# Altium schematic symbol library SMDLibrary.SchLib: 158 symbols
Pins are listed as number, name and electrical type; pins without a type are passive.

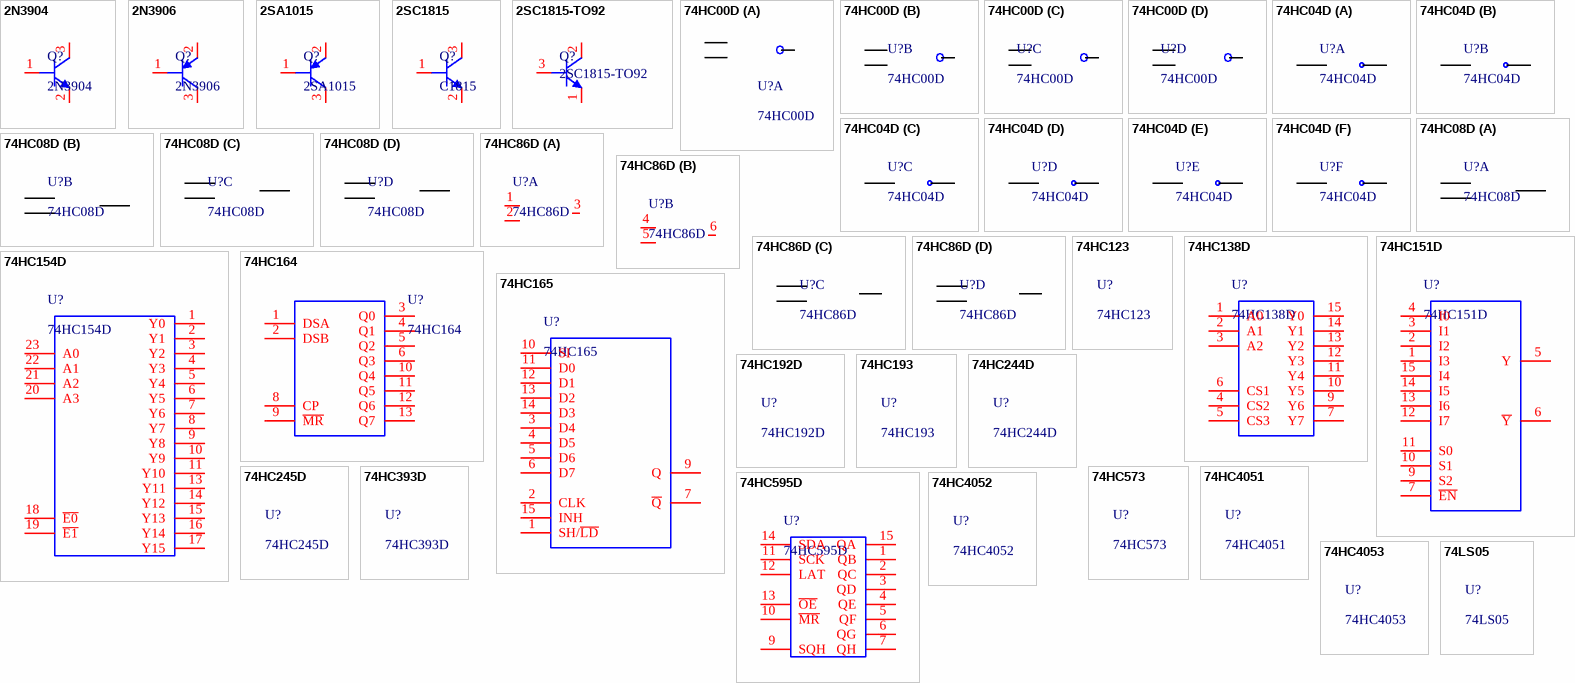
[diagram p0: symbols 2N3904 to 74LS05]

## 2N3904
designator Q?
footprint SOT23-3
footprint SOT223-3
pins: 1 B, 2 E, 3 C

## 2N3906
designator Q?
footprint SOT23-3
pins: 1 B, 2 E, 3 C

## 2SA1015
designator Q?
footprint SOT23-3
pins: 1 B, 2 E, 3 C

## 2SC1815
designator Q?, comment C1815
footprint SOT23-3
pins: 1 B, 2 E, 3 C

## 2SC1815-TO92
designator Q?
footprint TO-92
pins: 1 E, 2 C, 3 B

## 74HC00D
designator U?
footprint SO14
part A pins: 1, 2, 3, 7 hidden to GND, 14 hidden to VCC
part B pins: 4, 5, 6
part C pins: 8, 9, 10
part D pins: 11, 12, 13

## 74HC04D
designator U?
footprint SO14
part A pins: 1, 2, 7 hidden to GND, 14 hidden to VCC
part B pins: 3, 4
part C pins: 5, 6
part D pins: 8, 9
part E pins: 10, 11
part F pins: 12, 13

## 74HC08D
designator U?
footprint SO14
part A pins: 1, 2, 3
part B pins: 4, 5, 6, 7 hidden to GND, 14 hidden to VCC
part C pins: 8, 9, 10
part D pins: 11, 12, 13

## 74HC86D
designator U?
footprint SO14
part A pins: 1, 2, 3, 7 hidden to GND, 14 hidden to VCC
part B pins: 4, 5, 6
part C pins: 8, 9, 10
part D pins: 11, 12, 13

## 74HC123
designator U?
footprint SO16

## 74HC138D
designator U?
footprint SO16
pins: 1 A0, 2 A1, 3 A2, 4 CS2, 5 CS3, 6 CS1, 7 Y7, 8 hidden to GND, 9 Y6, 10 Y5, 11 Y4, 12 Y3, 13 Y2, 14 Y1, 15 Y0, 16 hidden to VCC

## 74HC151D
designator U?
footprint SO16
pins: 1 I3, 2 I2, 3 I1, 4 I0, 5 Y, 6 ~{Y}, 7 ~{EN}, 8 hidden to GND, 9 S2, 10 S1, 11 S0, 12 I7, 13 I6, 14 I5, 15 I4, 16 hidden to VCC

## 74HC154D
designator U?
footprint SO24
pins: 1 Y0, 2 Y1, 3 Y2, 4 Y3, 5 Y4, 6 Y5, 7 Y6, 8 Y7, 9 Y8, 10 Y9, 11 Y10, 12 hidden to GND, 13 Y11, 14 Y12, 15 Y13, 16 Y14, 17 Y15, 18 ~{E0}, 19 ~{E1}, 20 A3, 21 A2, 22 A1, 23 A0, 24 hidden to VCC

## 74HC164
designator U?
footprint SO14
pins: 1 DSA, 2 DSB, 3 Q0, 4 Q1, 5 Q2, 6 Q3, 7 hidden to GND, 8 CP, 9 ~{MR}, 10 Q4, 11 Q5, 12 Q6, 13 Q7, 14 hidden to VCC

## 74HC165
designator U?
footprint SO16
pins: 1 SH/~{LD}, 2 CLK, 3 D4, 4 D5, 5 D6, 6 D7, 7 ~{Q}, 8 hidden to GND, 9 Q, 10 SI, 11 D0, 12 D1, 13 D2, 14 D3, 15 INH, 16 hidden to VCC

## 74HC192D
designator U?
footprint SO16

## 74HC193
designator U?
footprint SO16

## 74HC244D
designator U?
footprint SO20

## 74HC245D
designator U?
footprint SOIC20_1.27_7.5

## 74HC393D
designator U?
footprint SO14

## 74HC573
designator U?
footprint SO20

## 74HC595D
designator U?
footprint SO16
pins: 1 QB, 2 QC, 3 QD, 4 QE, 5 QF, 6 QG, 7 QH, 8 hidden to GND, 9 SQH "OUTPUT", 10 ~{MR} "OUTPUT", 11 SCK "OUTPUT", 12 LAT "OUTPUT", 13 ~{OE} "OUTPUT", 14 SDA "OUTPUT", 15 QA, 16 hidden to VCC

## 74HC4051
designator U?
footprint SO16

## 74HC4052
designator U?
footprint SO16

## 74HC4053
designator U?
footprint SO16

## 74LS05
designator U?
footprint SO14

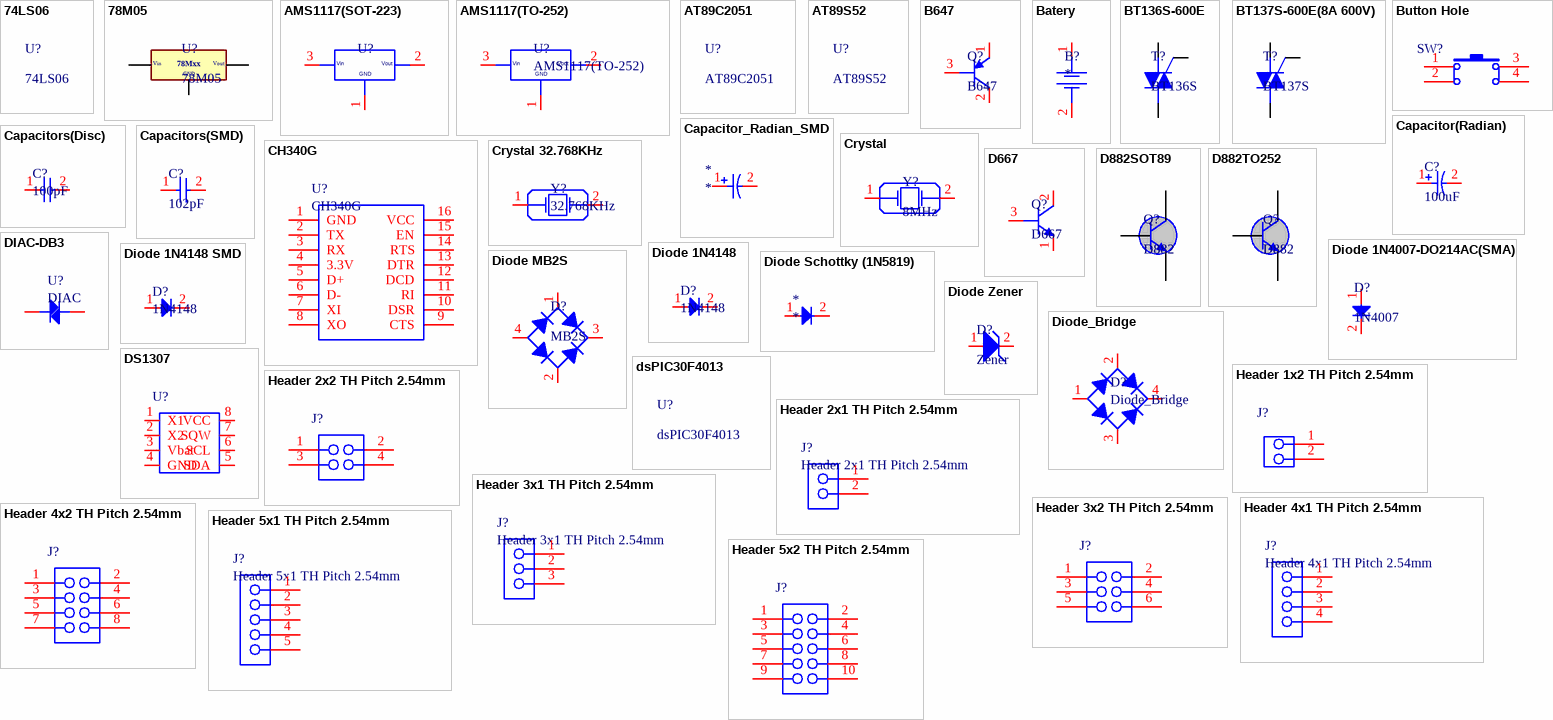
[diagram p1: symbols 74LS06 to Header 5x2 TH Pitch 2.54mm]

## 74LS06
designator U?
footprint SO14

## 78M05
designator U?
pins: 1, 2, 3
text: Vin; Vout; 78Mxx; GND

## AMS1117(SOT-223)
designator U?, comment AMS1117  (value not drawn)
footprint SOT223-3
pins: 1, 2, 3
text: Vin; Vout; GND

## AMS1117(TO-252)
designator U?
footprint TO252-3
pins: 1, 2, 3
text: Vin; Vout; GND

## AT89C2051
designator U?
footprint SOP20

## AT89S52
designator U?
footprint TQFP44_0.8_10

## B647
designator Q?
footprint TO-92
pins: 1 E, 2 C, 3 B

## Batery
designator B?
footprint CR1220
pins: 1, 2

## BT136S-600E
designator T?, comment BT136S
footprint TO252-3
pins: 1 T1, 2 T2, 3 G

## BT137S-600E(8A 600V)
designator T?, comment BT137S
footprint TO252-3
pins: 1 T1, 2 T2, 3 G

## Button Hole
designator SW?  (value not drawn)
footprint BUTTON_HOLE_4.3mm
footprint BUTTON_HOLE_5.0mm
footprint BUTTON_HOLE_7.0mm
footprint BUTTON_HOLE_7.3mm
footprint BUTTON_HOLE_7.5mm
footprint BUTTON_HOLE_8.0mm
footprint BUTTON_HOLE_9.5mm
footprint BUTTON_HOLE_11.0mm
footprint BUTTON_HOLE_12.0mm
footprint BUTTON_HOLE_13.0mm
footprint BUTTON_HOLE_15.0mm
footprint BUTTON_HOLE_17.0mm
footprint BUTTON_HOLE_18.0mm
footprint BUTTON_HOLE_20.0mm
footprint BUTTON_HOLE_22.0mm
footprint BUTTON_HOLE_26.0mm
pins: 1, 2, 3, 4

## Capacitor(Radian)
designator C?, comment 100uF
footprint CAP_6.3_100uF
footprint CAP_RAD_D5x11_POL_BK
footprint CAP_RAD_D6.3x11_POL_BK
footprint CAP_RAD_D8x11.5_POL_BK
footprint CAP_RAD_4mm
footprint CAP_RAD_7mm
footprint CAP_RAD_6mm
pins: 1, 2

## Capacitor_Radian_SMD
designator *
pins: 1, 2

## Capacitors(Disc)
designator C?, comment 100pF
footprint CAP_DISC_PITCH_2.54MM
pins: 1, 2

## Capacitors(SMD)
designator C?, comment 102pF
footprint C0201
footprint C0402
footprint C0603
footprint C0805
footprint C1206
footprint C1808
footprint C1812
pins: 1, 2

## CH340G
designator U?
footprint SOP16_1.27_3.8
pins: 1 GND, 2 TX, 3 RX, 4 3.3V, 5 D+, 6 D-, 7 XI, 8 XO, 9 CTS, 10 DSR, 11 RI, 12 DCD, 13 DTR, 14 RTS, 15 EN, 16 VCC

## Crystal
designator Y?, comment 8MHz
footprint HC-49S
footprint HC-49_THROUGH
footprint SMD5032
pins: 1, 2

## Crystal 32.768KHz
designator Y?, comment 32.768KHz
footprint DT-26
pins: 1, 2

## D667
designator Q?
footprint TO-92
pins: 1 E, 2 C, 3 B

## D882SOT89
designator Q?, comment D882
footprint SOT-89
pins: 1 B, 2 C, 3 E

## D882TO252
designator Q?, comment D882
footprint TO252-3
pins: 1 B, 2 C, 3 E

## DIAC-DB3
designator U?, comment DIAC
footprint SOT23-3
pins: 1 4, 2

## Diode 1N4007-DO214AC(SMA)
designator D?, comment 1N4007
footprint DO-214AC(SMA)
pins: 1, 2

## Diode 1N4148
designator D?, comment 1N4148
footprint DO-35 Horizontal
footprint DO-35 Vertical
footprint SOD-80
pins: 1, 2

## Diode 1N4148 SMD
designator D?, comment 1N4148
footprint DO-213AB
pins: 1, 2

## Diode MB2S
designator D?, comment MB2S
footprint TO-269AA
pins: 1, 2, 3, 4

## Diode Schottky (1N5819)
designator *
footprint SOD-123_2.7
pins: 1, 2

## Diode Zener
designator D?, comment Zener
footprint DO-213AB
pins: 1 A, 2 K

## Diode_Bridge
designator D?
footprint DIODE_2A
pins: 1, 2, 3, 4

## DS1307
designator U?, comment RealTime  (value not drawn)
footprint SOIC08_1.27_6.0
pins: 1 X1, 2 X2, 3 Vbat, 4 GND, 5 SDA, 6 SCL, 7 SQW, 8 VCC

## dsPIC30F4013
designator U?
footprint TQFP44_0.8_10

## Header 1x2 TH Pitch 2.54mm
designator J?  (value not drawn)
footprint Header 2x1 TH Pitch 2.54mm
pins: 1, 2

## Header 2x1 TH Pitch 2.54mm
designator J?
footprint Header 2x1 TH Pitch 2.54mm
pins: 1, 2

## Header 2x2 TH Pitch 2.54mm
designator J?  (value not drawn)
footprint Header 2x2 TH Pitch 2.54mm
pins: 1, 2, 3, 4

## Header 3x1 TH Pitch 2.54mm
designator J?
footprint Header 3x1 TH Pitch 2.54mm
pins: 1, 2, 3

## Header 3x2 TH Pitch 2.54mm
designator J?  (value not drawn)
footprint Header 3x2 TH Pitch 2.54mm
pins: 1, 2, 3, 4, 5, 6

## Header 4x1 TH Pitch 2.54mm
designator J?
footprint Header 4x1 TH Pitch 2.54mm
pins: 1, 2, 3, 4

## Header 4x2 TH Pitch 2.54mm
designator J?  (value not drawn)
footprint Header 4x2 TH Pitch 2.54mm
pins: 1, 2, 3, 4, 5, 6, 7, 8

## Header 5x1 TH Pitch 2.54mm
designator J?
footprint Header 5x1 TH Pitch 2.54mm
pins: 1, 2, 3, 4, 5

## Header 5x2 TH Pitch 2.54mm
designator J?  (value not drawn)
footprint Header 5x2 TH Pitch 2.54mm
pins: 1, 2, 3, 4, 5, 6, 7, 8, 9, 10

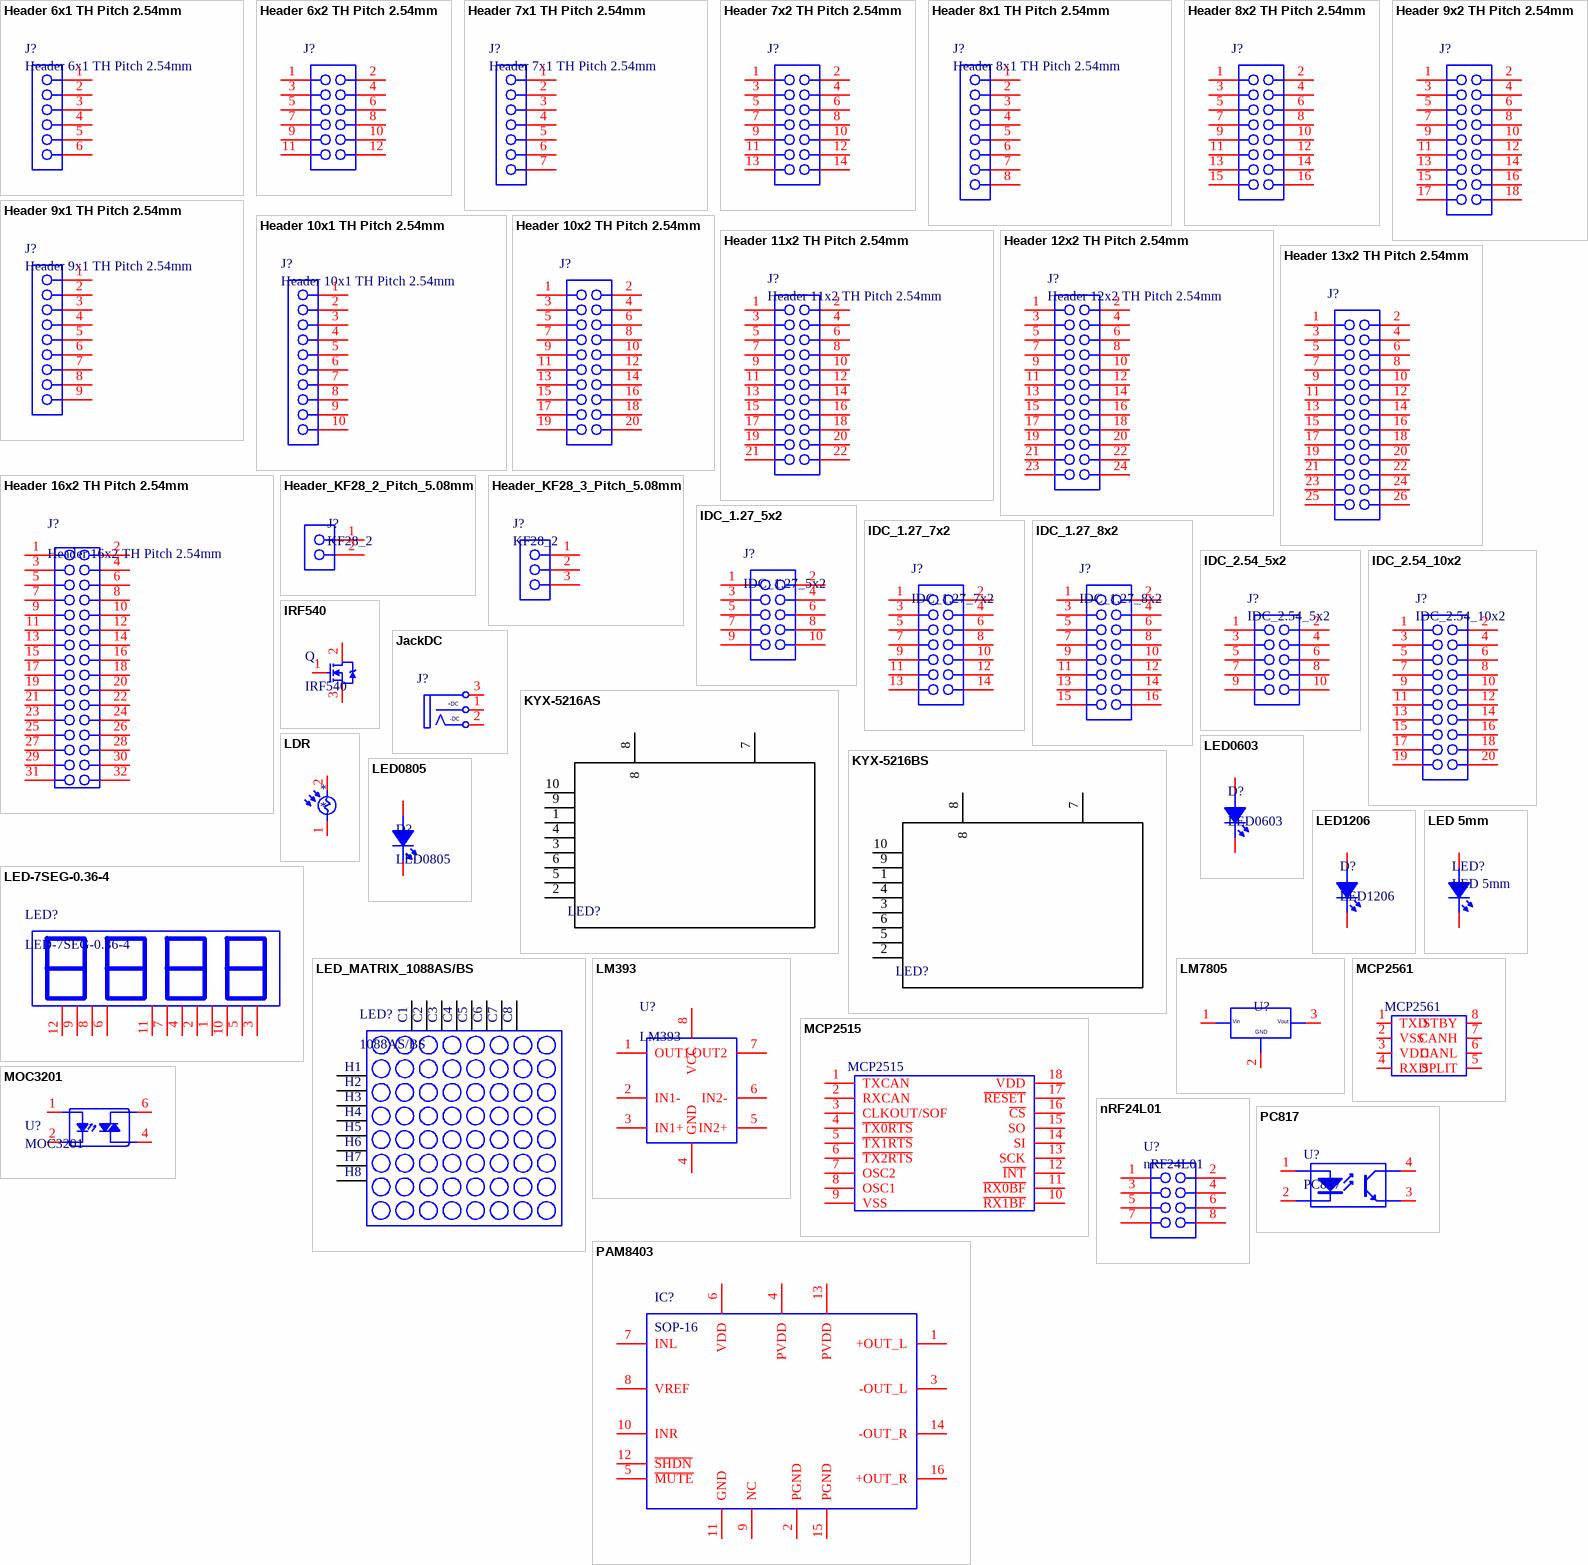
[diagram p2: symbols Header 6x1 TH Pitch 2.54mm to PC817]

## Header 6x1 TH Pitch 2.54mm
designator J?
footprint Header 6x1 TH Pitch 2.54mm
pins: 1, 2, 3, 4, 5, 6

## Header 6x2 TH Pitch 2.54mm
designator J?  (value not drawn)
footprint Header 6x2 TH Pitch 2.54mm
pins: 1, 2, 3, 4, 5, 6, 7, 8, 9, 10, 11, 12

## Header 7x1 TH Pitch 2.54mm
designator J?
footprint Header 7x1 TH Pitch 2.54mm
pins: 1, 2, 3, 4, 5, 6, 7

## Header 7x2 TH Pitch 2.54mm
designator J?  (value not drawn)
footprint Header 7x2 TH Pitch 2.54mm
pins: 1, 2, 3, 4, 5, 6, 7, 8, 9, 10, 11, 12, 13, 14

## Header 8x1 TH Pitch 2.54mm
designator J?
footprint Header 8x1 TH Pitch 2.54mm
pins: 1, 2, 3, 4, 5, 6, 7, 8

## Header 8x2 TH Pitch 2.54mm
designator J?  (value not drawn)
footprint Header 8x2 TH Pitch 2.54mm
pins: 1, 2, 3, 4, 5, 6, 7, 8, 9, 10, 11, 12, 13, 14, 15, 16

## Header 9x1 TH Pitch 2.54mm
designator J?
footprint Header 9x1 TH Pitch 2.54mm
pins: 1, 2, 3, 4, 5, 6, 7, 8, 9

## Header 9x2 TH Pitch 2.54mm
designator J?  (value not drawn)
footprint Header 9x2 TH Pitch 2.54mm
pins: 1, 2, 3, 4, 5, 6, 7, 8, 9, 10, 11, 12, 13, 14, 15, 16, 17, 18

## Header 10x1 TH Pitch 2.54mm
designator J?
footprint Header 10x1 TH Pitch 2.54mm
pins: 1, 2, 3, 4, 5, 6, 7, 8, 9, 10

## Header 10x2 TH Pitch 2.54mm
designator J?  (value not drawn)
footprint Header 10x2 TH Pitch 2.54mm
pins: 1, 2, 3, 4, 5, 6, 7, 8, 9, 10, 11, 12, 13, 14, 15, 16, 17, 18, 19, 20

## Header 11x2 TH Pitch 2.54mm
designator J?
footprint Header 11x2 TH Pitch 2.54mm
pins: 1, 2, 3, 4, 5, 6, 7, 8, 9, 10, 11, 12, 13, 14, 15, 16, 17, 18, 19, 20, 21, 22

## Header 12x2 TH Pitch 2.54mm
designator J?
footprint Header 12x2 TH Pitch 2.54mm
pins: 1, 2, 3, 4, 5, 6, 7, 8, 9, 10, 11, 12, 13, 14, 15, 16, 17, 18, 19, 20, 21, 22, 23, 24

## Header 13x2 TH Pitch 2.54mm
designator J?  (value not drawn)
footprint Header 13x2 TH Pitch 2.54mm
pins: 1, 2, 3, 4, 5, 6, 7, 8, 9, 10, 11, 12, 13, 14, 15, 16, 17, 18, 19, 20, 21, 22, 23, 24, 25, 26

## Header 16x2 TH Pitch 2.54mm
designator J?
footprint Header 16x2 TH Pitch 2.54mm
pins: 1, 2, 3, 4, 5, 6, 7, 8, 9, 10, 11, 12, 13, 14, 15, 16, 17, 18, 19, 20, 21, 22, 23, 24, 25, 26, 27, 28, 29, 30, 31, 32

## Header_KF28_2_Pitch_5.08mm
designator J?, comment KF28_2
footprint HEADER_KF128_2_5.08MM
pins: 1, 2

## Header_KF28_3_Pitch_5.08mm
designator J?, comment KF28_2
footprint HEADER_KF128_3_5.08MM
pins: 1, 2, 3

## IDC_1.27_5x2
designator J?
footprint CONB127P-2R-10W_TH
pins: 1, 2, 3, 4, 5, 6, 7, 8, 9, 10

## IDC_1.27_7x2
designator J?
footprint CONB127P-2R-14W_TH
pins: 1, 2, 3, 4, 5, 6, 7, 8, 9, 10, 11, 12, 13, 14

## IDC_1.27_8x2
designator J?
footprint CONB127P-2R-16W_TH
pins: 1, 2, 3, 4, 5, 6, 7, 8, 9, 10, 11, 12, 13, 14, 15, 16

## IDC_2.54_5x2
designator J?
footprint IDC_CONNECTOR_10x2.54
pins: 1, 2, 3, 4, 5, 6, 7, 8, 9, 10

## IDC_2.54_10x2
designator J?
footprint IDC_CONNECTOR_20_2.54
pins: 1, 2, 3, 4, 5, 6, 7, 8, 9, 10, 11, 12, 13, 14, 15, 16, 17, 18, 19, 20

## IRF540
designator Q
footprint TO263AB
pins: 1 G, 2 D, 3 S

## JackDC
designator J?, comment Connector  (value not drawn)
footprint DC_JACK_161-0721
footprint DC_K375A_Power
pins: 1 DS+ (power) "Sleeve (Ground)", 2 DC- "Tip Normal (Break Contact)", 3 T "Tip"
text: +DC; -DC

## KYX-5216AS
designator LED?  (value not drawn)
footprint KYX-5261AS/BS (0.56inch 2digits red 7 segment led display 10pin)
pins: 1, 2, 3, 4, 5, 6, 7, 8, 9, 10

## KYX-5216BS
designator LED?
footprint KYX-5261AS/BS (0.56inch 2digits red 7 segment led display 10pin)
pins: 1, 2, 3, 4, 5, 6, 7, 8, 9, 10

## LDR
designator *
footprint LDR_CELL_THRU_HOLE
pins: 1, 2

## LED0603
designator D?
footprint L0603BLUE
pins: 1 A, 2 K

## LED0805
designator D?
footprint L0805RED
pins: 1 A, 2 K

## LED1206
designator D?
footprint L1206BLUE
footprint L1206RED
pins: 1 A, 2 K

## LED 5mm
designator LED?
footprint LED_5MM
pins: 1 A, 2 K

## LED-7SEG-0.36-4
designator LED?
footprint LED-7SEG-0.36-4
pins: 1, 2, 3, 4, 5, 6, 7, 8, 9, 10, 11, 12

## LED_MATRIX_1088AS/BS
designator LED?, comment 1088AS/BS
footprint LED_MATRIX_1088AS/BS
pins: 1, 2, 3, 4, 5, 6, 7, 8, 9, 10, 11, 12, 13, 14, 15, 16
text: C1; C2; C3; C4; C5; C6; C7; C8; H1; H2; H3; H4; H5; H6; H7; H8

## LM393
designator U?
footprint SOIC08_1.27_6.0
pins: 1 OUT1, 2 IN1-, 3 IN1+, 4 GND, 5 IN2+, 6 IN2-, 7 OUT2, 8 VCC

## LM7805
designator U?  (value not drawn)
footprint TO252-3
pins: 1, 2, 3 2
text: Vin; Vout; GND

## MCP2515
designator MCP2515, comment Stand-Alone CAN Controller with SPI Interface  (value not drawn)
footprint SOIC18_1.27_7.5
pins: 1 TXCAN, 2 RXCAN, 3 CLKOUT/SOF, 4 ~{TX0RTS}, 5 ~{TX1RTS}, 6 ~{TX2RTS}, 7 OSC2, 8 OSC1, 9 VSS, 10 ~{RX1BF}, 11 ~{RX0BF}, 12 ~{INT}, 13 SCK, 14 SI, 15 SO, 16 ~{CS}, 17 ~{RESET}, 18 VDD

## MCP2561
designator MCP2561, comment High-Speed CAN Transceiver  (value not drawn)
footprint SOIC08_1.27_6.0
pins: 1 TXD, 2 VSS, 3 VDD, 4 RXD, 5 SPLIT, 6 CANL, 7 CANH, 8 STBY

## MOC3201
designator U?
footprint SOP-6
pins: 1, 2, 4, 6

## nRF24L01
designator U?
footprint nRF24L01
pins: 1, 2, 3, 4, 5, 6, 7, 8

## PAM8403
designator IC?, comment SOP-16
footprint SOP16_1.27_3.8
pins: 1 +OUT_L, 2 PGND, 3 -OUT_L, 4 PVDD, 5 ~{MUTE}, 6 VDD, 7 INL, 8 VREF, 9 NC, 10 INR, 11 GND, 12 ~{SHDN}, 13 PVDD, 14 -OUT_R, 15 PGND, 16 +OUT_R

## PC817
designator U?
footprint SOP-4
pins: 1 A "Anode", 2 K "Cathode", 3 E "Emitter", 4 C "Collector"

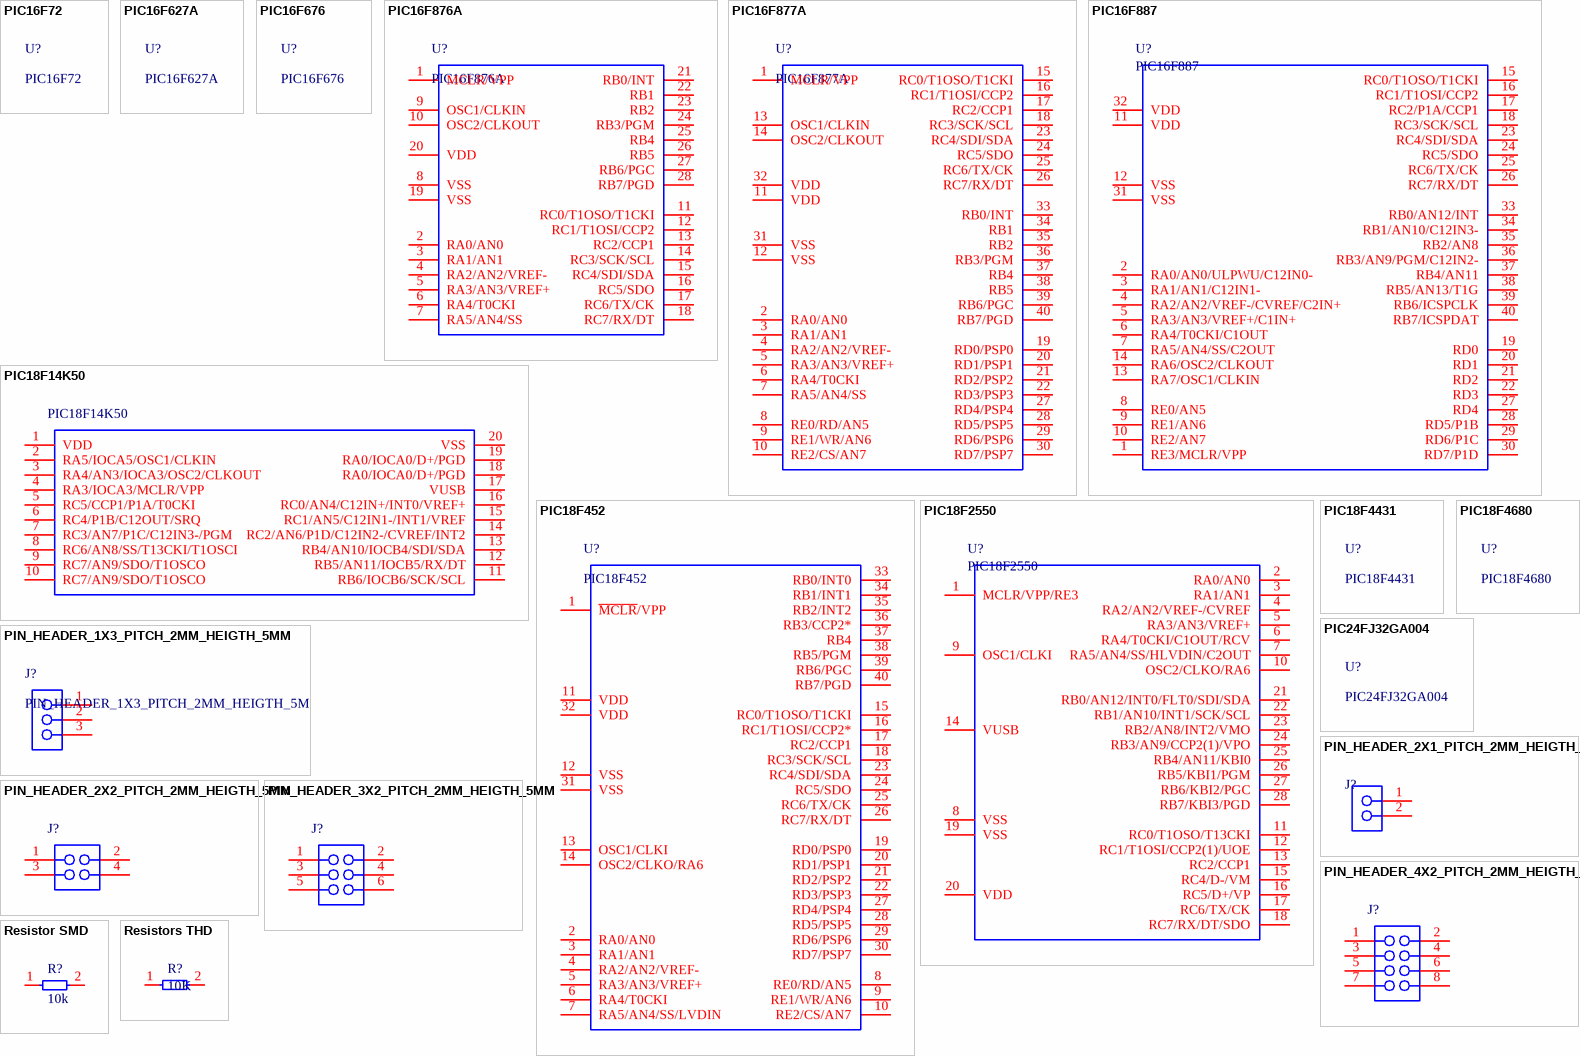
[diagram p3: symbols PIC16F72 to Resistors THD]

## PIC16F72
designator U?
footprint SSOP28

## PIC16F627A
designator U?

## PIC16F676
designator U?
footprint TSSOP14_0.65_4.4

## PIC16F876A
designator U?
footprint SSOP28
footprint DIP28_M04
pins: 1 MCLR/VPP, 2 RA0/AN0, 3 RA1/AN1, 4 RA2/AN2/VREF-, 5 RA3/AN3/VREF+, 6 RA4/T0CKI, 7 RA5/AN4/SS, 8 VSS, 9 OSC1/CLKIN, 10 OSC2/CLKOUT, 11 RC0/T1OSO/T1CKI, 12 RC1/T1OSI/CCP2, 13 RC2/CCP1, 14 RC3/SCK/SCL, 15 RC4/SDI/SDA, 16 RC5/SDO, 17 RC6/TX/CK, 18 RC7/RX/DT, 19 VSS, 20 VDD, 21 RB0/INT, 22 RB1, 23 RB2, 24 RB3/PGM, 25 RB4, 26 RB5, 27 RB6/PGC, 28 RB7/PGD

## PIC16F877A
designator U?
footprint DIP40_M02
pins: 1 MCLR/VPP, 2 RA0/AN0, 3 RA1/AN1, 4 RA2/AN2/VREF-, 5 RA3/AN3/VREF+, 6 RA4/T0CKI, 7 RA5/AN4/SS, 8 RE0/RD/AN5, 9 RE1/WR/AN6, 10 RE2/CS/AN7, 11 VDD, 12 VSS, 13 OSC1/CLKIN, 14 OSC2/CLKOUT, 15 RC0/T1OSO/T1CKI, 16 RC1/T1OSI/CCP2, 17 RC2/CCP1, 18 RC3/SCK/SCL, 19 RD0/PSP0, 20 RD1/PSP1, 21 RD2/PSP2, 22 RD3/PSP3, 23 RC4/SDI/SDA, 24 RC5/SDO, 25 RC6/TX/CK, 26 RC7/RX/DT, 27 RD4/PSP4, 28 RD5/PSP5, 29 RD6/PSP6, 30 RD7/PSP7, 31 VSS, 32 VDD, 33 RB0/INT, 34 RB1, 35 RB2, 36 RB3/PGM, 37 RB4, 38 RB5, 39 RB6/PGC, 40 RB7/PGD

## PIC16F887
designator U?
footprint DIP40_M02
pins: 1 RE3/MCLR/VPP, 2 RA0/AN0/ULPWU/C12IN0-, 3 RA1/AN1/C12IN1-, 4 RA2/AN2/VREF-/CVREF/C2IN+, 5 RA3/AN3/VREF+/C1IN+, 6 RA4/T0CKI/C1OUT, 7 RA5/AN4/SS/C2OUT, 8 RE0/AN5, 9 RE1/AN6, 10 RE2/AN7, 11 VDD, 12 VSS, 13 RA7/OSC1/CLKIN, 14 RA6/OSC2/CLKOUT, 15 RC0/T1OSO/T1CKI, 16 RC1/T1OSI/CCP2, 17 RC2/P1A/CCP1, 18 RC3/SCK/SCL, 19 RD0, 20 RD1, 21 RD2, 22 RD3, 23 RC4/SDI/SDA, 24 RC5/SDO, 25 RC6/TX/CK, 26 RC7/RX/DT, 27 RD4, 28 RD5/P1B, 29 RD6/P1C, 30 RD7/P1D, 31 VSS, 32 VDD, 33 RB0/AN12/INT, 34 RB1/AN10/C12IN3-, 35 RB2/AN8, 36 RB3/AN9/PGM/C12IN2-, 37 RB4/AN11, 38 RB5/AN13/T1G, 39 RB6/ICSPCLK, 40 RB7/ICSPDAT

## PIC18F14K50
designator PIC18F14K50
footprint SOIC20_1.27_7.5
pins: 1 VDD, 2 RA5/IOCA5/OSC1/CLKIN, 3 RA4/AN3/IOCA3/OSC2/CLKOUT, 4 RA3/IOCA3/MCLR/VPP, 5 RC5/CCP1/P1A/T0CKI, 6 RC4/P1B/C12OUT/SRQ, 7 RC3/AN7/P1C/C12IN3-/PGM, 8 RC6/AN8/SS/T13CKI/T1OSCI, 9 RC7/AN9/SDO/T1OSCO, 10 RC7/AN9/SDO/T1OSCO, 11 RB6/IOCB6/SCK/SCL, 12 RB5/AN11/IOCB5/RX/DT, 13 RB4/AN10/IOCB4/SDI/SDA, 14 RC2/AN6/P1D/C12IN2-/CVREF/INT2, 15 RC1/AN5/C12IN1-/INT1/VREF, 16 RC0/AN4/C12IN+/INT0/VREF+, 17 VUSB, 18 RA0/IOCA0/D+/PGD, 19 RA0/IOCA0/D+/PGD, 20 VSS

## PIC18F452
designator U?
footprint TQFP44_0.8_10
footprint DIP40_M02
pins: 1 ~{MCLR}/VPP, 2 RA0/AN0, 3 RA1/AN1, 4 RA2/AN2/VREF-, 5 RA3/AN3/VREF+, 6 RA4/T0CKI, 7 RA5/AN4/SS/LVDIN, 8 RE0/RD/AN5, 9 RE1/WR/AN6, 10 RE2/CS/AN7, 11 VDD, 12 VSS, 13 OSC1/CLKI, 14 OSC2/CLKO/RA6, 15 RC0/T1OSO/T1CKI, 16 RC1/T1OSI/CCP2*, 17 RC2/CCP1, 18 RC3/SCK/SCL, 19 RD0/PSP0, 20 RD1/PSP1, 21 RD2/PSP2, 22 RD3/PSP3, 23 RC4/SDI/SDA, 24 RC5/SDO, 25 RC6/TX/CK, 26 RC7/RX/DT, 27 RD4/PSP4, 28 RD5/PSP5, 29 RD6/PSP6, 30 RD7/PSP7, 31 VSS, 32 VDD, 33 RB0/INT0, 34 RB1/INT1, 35 RB2/INT2, 36 RB3/CCP2*, 37 RB4, 38 RB5/PGM, 39 RB6/PGC, 40 RB7/PGD

## PIC18F2550
designator U?
footprint DIP28_M04
pins: 1 MCLR/VPP/RE3, 2 RA0/AN0, 3 RA1/AN1, 4 RA2/AN2/VREF-/CVREF, 5 RA3/AN3/VREF+, 6 RA4/T0CKI/C1OUT/RCV, 7 RA5/AN4/SS/HLVDIN/C2OUT, 8 VSS, 9 OSC1/CLKI, 10 OSC2/CLKO/RA6, 11 RC0/T1OSO/T13CKI, 12 RC1/T1OSI/CCP2(1)/UOE, 13 RC2/CCP1, 14 VUSB, 15 RC4/D-/VM, 16 RC5/D+/VP, 17 RC6/TX/CK, 18 RC7/RX/DT/SDO, 19 VSS, 20 VDD, 21 RB0/AN12/INT0/FLT0/SDI/SDA, 22 RB1/AN10/INT1/SCK/SCL, 23 RB2/AN8/INT2/VMO, 24 RB3/AN9/CCP2(1)/VPO, 25 RB4/AN11/KBI0, 26 RB5/KBI1/PGM, 27 RB6/KBI2/PGC, 28 RB7/KBI3/PGD

## PIC18F4431
designator U?
footprint TQFP44_0.8_10

## PIC18F4680
designator U?
footprint TQFP44_0.8_10

## PIC24FJ32GA004
designator U?
footprint TQFP44_0.8_10

## PIN_HEADER_1X3_PITCH_2MM_HEIGTH_5MM
designator J?
footprint PIN_HEADER_1X3_PITCH_2MM_HEIGTH_5MM
pins: 1, 2, 3

## PIN_HEADER_2X1_PITCH_2MM_HEIGTH_5MM
designator J?  (value not drawn)
footprint PIN_HEADER_2X1_PITCH_2MM_HEIGTH_5MM
pins: 1, 2

## PIN_HEADER_2X2_PITCH_2MM_HEIGTH_5MM
designator J?  (value not drawn)
footprint PIN_HEADER_2X2_PITCH_2MM_HEIGTH_5MM
pins: 1, 2, 3, 4

## PIN_HEADER_3X2_PITCH_2MM_HEIGTH_5MM
designator J?  (value not drawn)
footprint PIN_HEADER_3X2_PITCH_2MM_HEIGTH_5MM
pins: 1, 2, 3, 4, 5, 6

## PIN_HEADER_4X2_PITCH_2MM_HEIGTH_5MM
designator J?  (value not drawn)
footprint PIN_HEADER_4X2_PITCH_2MM_HEIGTH_5MM
pins: 1, 2, 3, 4, 5, 6, 7, 8

## Resistor SMD
designator R?, comment 10k
footprint R0603
footprint R0805
footprint R1206
footprint R2010
footprint R2512
pins: 1, 2

## Resistors THD
designator R?, comment 10K
footprint RES-0.125W-H-CF
footprint RES-0.125W-H-MF
footprint RES-0.125W-V-CF
footprint RES-0.125W-V-MF
footprint RES-0.25W-H-CF
footprint RES-0.25W-H-MF
footprint RES-0.25W-V-CF
footprint RES-0.25W-V-MF
footprint RES-0.5W-H-MF
footprint RES-0.5W-H-MF
footprint RES-0.5W-V-MF
footprint RES-0.5W-V-MO
footprint RES-0.5W-HH-MF
footprint RES-0.5W-HH-MO
pins: 1, 2

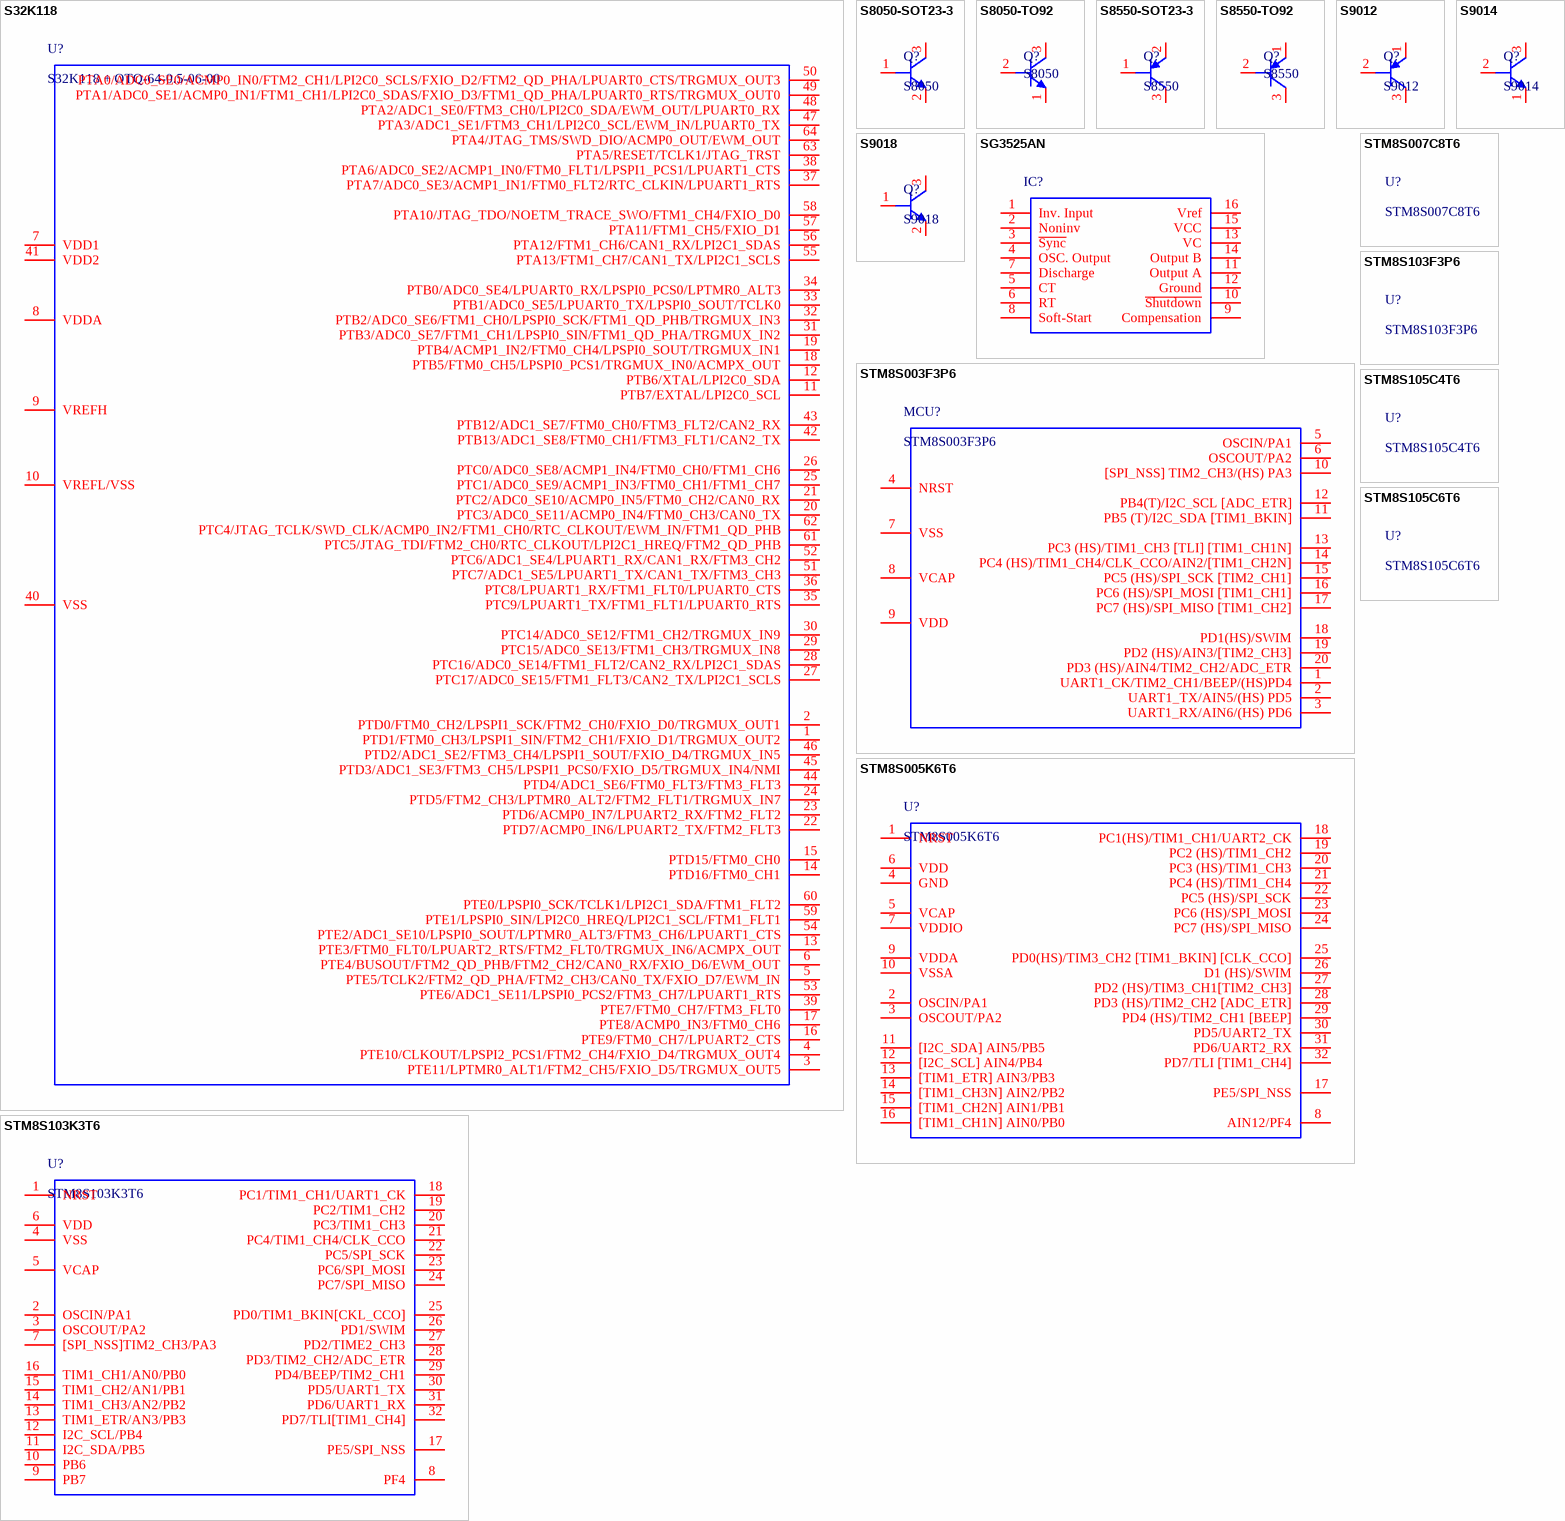
[diagram p4: symbols S32K118 to STM8S105C6T6]

## S32K118
designator U?, comment S32K118 + OTQ-64-0.5-06-00
footprint SOCKET_QFP64
footprint SOCKET_ENPLAS_OTQ_64-0.5-03
pins: 1 PTD1/FTM0_CH3/LPSPI1_SIN/FTM2_CH1/FXIO_D1/TRGMUX_OUT2, 2 PTD0/FTM0_CH2/LPSPI1_SCK/FTM2_CH0/FXIO_D0/TRGMUX_OUT1, 3 PTE11/LPTMR0_ALT1/FTM2_CH5/FXIO_D5/TRGMUX_OUT5, 4 PTE10/CLKOUT/LPSPI2_PCS1/FTM2_CH4/FXIO_D4/TRGMUX_OUT4, 5 PTE5/TCLK2/FTM2_QD_PHA/FTM2_CH3/CAN0_TX/FXIO_D7/EWM_IN, 6 PTE4/BUSOUT/FTM2_QD_PHB/FTM2_CH2/CAN0_RX/FXIO_D6/EWM_OUT, 7 VDD1, 8 VDDA, 9 VREFH, 10 VREFL/VSS, 11 PTB7/EXTAL/LPI2C0_SCL, 12 PTB6/XTAL/LPI2C0_SDA, 13 PTE3/FTM0_FLT0/LPUART2_RTS/FTM2_FLT0/TRGMUX_IN6/ACMPX_OUT, 14 PTD16/FTM0_CH1, 15 PTD15/FTM0_CH0, 16 PTE9/FTM0_CH7/LPUART2_CTS, 17 PTE8/ACMP0_IN3/FTM0_CH6, 18 PTB5/FTM0_CH5/LPSPI0_PCS1/TRGMUX_IN0/ACMPX_OUT, 19 PTB4/ACMP1_IN2/FTM0_CH4/LPSPI0_SOUT/TRGMUX_IN1, 20 PTC3/ADC0_SE11/ACMP0_IN4/FTM0_CH3/CAN0_TX, 21 PTC2/ADC0_SE10/ACMP0_IN5/FTM0_CH2/CAN0_RX, 22 PTD7/ACMP0_IN6/LPUART2_TX/FTM2_FLT3, 23 PTD6/ACMP0_IN7/LPUART2_RX/FTM2_FLT2, 24 PTD5/FTM2_CH3/LPTMR0_ALT2/FTM2_FLT1/TRGMUX_IN7, 25 PTC1/ADC0_SE9/ACMP1_IN3/FTM0_CH1/FTM1_CH7, 26 PTC0/ADC0_SE8/ACMP1_IN4/FTM0_CH0/FTM1_CH6, 27 PTC17/ADC0_SE15/FTM1_FLT3/CAN2_TX/LPI2C1_SCLS, 28 PTC16/ADC0_SE14/FTM1_FLT2/CAN2_RX/LPI2C1_SDAS, 29 PTC15/ADC0_SE13/FTM1_CH3/TRGMUX_IN8, 30 PTC14/ADC0_SE12/FTM1_CH2/TRGMUX_IN9, 31 PTB3/ADC0_SE7/FTM1_CH1/LPSPI0_SIN/FTM1_QD_PHA/TRGMUX_IN2, 32 PTB2/ADC0_SE6/FTM1_CH0/LPSPI0_SCK/FTM1_QD_PHB/TRGMUX_IN3, 33 PTB1/ADC0_SE5/LPUART0_TX/LPSPI0_SOUT/TCLK0, 34 PTB0/ADC0_SE4/LPUART0_RX/LPSPI0_PCS0/LPTMR0_ALT3, 35 PTC9/LPUART1_TX/FTM1_FLT1/LPUART0_RTS, 36 PTC8/LPUART1_RX/FTM1_FLT0/LPUART0_CTS, 37 PTA7/ADC0_SE3/ACMP1_IN1/FTM0_FLT2/RTC_CLKIN/LPUART1_RTS, 38 PTA6/ADC0_SE2/ACMP1_IN0/FTM0_FLT1/LPSPI1_PCS1/LPUART1_CTS, 39 PTE7/FTM0_CH7/FTM3_FLT0, 40 VSS, 41 VDD2, 42 PTB13/ADC1_SE8/FTM0_CH1/FTM3_FLT1/CAN2_TX, 43 PTB12/ADC1_SE7/FTM0_CH0/FTM3_FLT2/CAN2_RX, 44 PTD4/ADC1_SE6/FTM0_FLT3/FTM3_FLT3, 45 PTD3/ADC1_SE3/FTM3_CH5/LPSPI1_PCS0/FXIO_D5/TRGMUX_IN4/NMI, 46 PTD2/ADC1_SE2/FTM3_CH4/LPSPI1_SOUT/FXIO_D4/TRGMUX_IN5, 47 PTA3/ADC1_SE1/FTM3_CH1/LPI2C0_SCL/EWM_IN/LPUART0_TX, 48 PTA2/ADC1_SE0/FTM3_CH0/LPI2C0_SDA/EWM_OUT/LPUART0_RX, 49 PTA1/ADC0_SE1/ACMP0_IN1/FTM1_CH1/LPI2C0_SDAS/FXIO_D3/FTM1_QD_PHA/LPUART0_RTS/TRGMUX_OUT0, 50 PTA0/ADC0_SE0/ACMP0_IN0/FTM2_CH1/LPI2C0_SCLS/FXIO_D2/FTM2_QD_PHA/LPUART0_CTS/TRGMUX_OUT3, 51 PTC7/ADC1_SE5/LPUART1_TX/CAN1_TX/FTM3_CH3, 52 PTC6/ADC1_SE4/LPUART1_RX/CAN1_RX/FTM3_CH2, 53 PTE6/ADC1_SE11/LPSPI0_PCS2/FTM3_CH7/LPUART1_RTS, 54 PTE2/ADC1_SE10/LPSPI0_SOUT/LPTMR0_ALT3/FTM3_CH6/LPUART1_CTS, 55 PTA13/FTM1_CH7/CAN1_TX/LPI2C1_SCLS, 56 PTA12/FTM1_CH6/CAN1_RX/LPI2C1_SDAS, 57 PTA11/FTM1_CH5/FXIO_D1, 58 PTA10/JTAG_TDO/NOETM_TRACE_SWO/FTM1_CH4/FXIO_D0, 59 PTE1/LPSPI0_SIN/LPI2C0_HREQ/LPI2C1_SCL/FTM1_FLT1, 60 PTE0/LPSPI0_SCK/TCLK1/LPI2C1_SDA/FTM1_FLT2, 61 PTC5/JTAG_TDI/FTM2_CH0/RTC_CLKOUT/LPI2C1_HREQ/FTM2_QD_PHB, 62 PTC4/JTAG_TCLK/SWD_CLK/ACMP0_IN2/FTM1_CH0/RTC_CLKOUT/EWM_IN/FTM1_QD_PHB, 63 PTA5/RESET/TCLK1/JTAG_TRST, 64 PTA4/JTAG_TMS/SWD_DIO/ACMP0_OUT/EWM_OUT

## S8050-SOT23-3
designator Q?, comment S8050
footprint SOT23-3
pins: 1 B, 2 E, 3 C

## S8050-TO92
designator Q?, comment S8050
footprint TO-92
pins: 1 E, 2 B, 3 C

## S8550-SOT23-3
designator Q?, comment S8550
footprint SOT23-3
pins: 1 B, 2 E, 3 C

## S8550-TO92
designator Q?, comment S8550
footprint TO-92
pins: 1 E, 2 B, 3 C

## S9012
designator Q?
footprint TO-92
pins: 1 E, 2 B, 3 C

## S9014
designator Q?
footprint TO-92
pins: 1 E, 2 B, 3 C

## S9018
designator Q?
footprint SOT23-3
pins: 1 B, 2 E, 3 C

## SG3525AN
designator IC?, comment Pulse width modulator control circuits  (value not drawn)
footprint SO16
pins: 1 Inv. Input, 2 Noninv, 3 ~{Sync}, 4 OSC. Output, 5 CT, 6 RT, 7 Discharge, 8 Soft-Start, 9 Compensation, 10 ~{Shutdown}, 11 Output A, 12 Ground, 13 VC, 14 Output B, 15 VCC, 16 Vref

## STM8S003F3P6
designator MCU?
footprint TQFP32_0.8_07
footprint TSSOP20_0.65_4.4
pins: 1 UART1_CK/TIM2_CH1/BEEP/(HS)PD4, 2 UART1_TX/AIN5/(HS) PD5, 3 UART1_RX/AIN6/(HS) PD6, 4 NRST, 5 OSCIN/PA1, 6 OSCOUT/PA2, 7 VSS, 8 VCAP, 9 VDD, 10 [SPI_NSS] TIM2_CH3/(HS) PA3, 11 PB5 (T)/I2C_SDA [TIM1_BKIN], 12 PB4(T)/I2C_SCL [ADC_ETR], 13 PC3 (HS)/TIM1_CH3 [TLI] [TIM1_CH1N], 14 PC4 (HS)/TIM1_CH4/CLK_CCO/AIN2/[TIM1_CH2N], 15 PC5 (HS)/SPI_SCK [TIM2_CH1], 16 PC6 (HS)/SPI_MOSI [TIM1_CH1], 17 PC7 (HS)/SPI_MISO [TIM1_CH2], 18 PD1(HS)/SWIM, 19 PD2 (HS)/AIN3/[TIM2_CH3], 20 PD3 (HS)/AIN4/TIM2_CH2/ADC_ETR

## STM8S005K6T6
designator U?
Ram: 2Kb; CPU: 8bit; Flash: 32Kb
footprint TQFP32_0.8_07
pins: 1 NRST, 2 OSCIN/PA1, 3 OSCOUT/PA2, 4 GND, 5 VCAP, 6 VDD, 7 VDDIO, 8 AIN12/PF4, 9 VDDA, 10 VSSA, 11 [I2C_SDA] AIN5/PB5, 12 [I2C_SCL] AIN4/PB4, 13 [TIM1_ETR] AIN3/PB3, 14 [TIM1_CH3N] AIN2/PB2, 15 [TIM1_CH2N] AIN1/PB1, 16 [TIM1_CH1N] AIN0/PB0, 17 PE5/SPI_NSS, 18 PC1(HS)/TIM1_CH1/UART2_CK, 19 PC2 (HS)/TIM1_CH2, 20 PC3 (HS)/TIM1_CH3, 21 PC4 (HS)/TIM1_CH4, 22 PC5 (HS)/SPI_SCK, 23 PC6 (HS)/SPI_MOSI, 24 PC7 (HS)/SPI_MISO, 25 PD0(HS)/TIM3_CH2 [TIM1_BKIN] [CLK_CCO], 26 D1 (HS)/SWIM, 27 PD2 (HS)/TIM3_CH1[TIM2_CH3], 28 PD3 (HS)/TIM2_CH2 [ADC_ETR], 29 PD4 (HS)/TIM2_CH1 [BEEP], 30 PD5/UART2_TX, 31 PD6/UART2_RX, 32 PD7/TLI [TIM1_CH4]

## STM8S007C8T6
designator U?

## STM8S103F3P6
designator U?
footprint TSSOP20_0.65_4.4

## STM8S103K3T6
designator U?
footprint LQFP032_FPT-32P-M21
pins: 1 NRST, 2 OSCIN/PA1, 3 OSCOUT/PA2, 4 VSS, 5 VCAP, 6 VDD, 7 [SPI_NSS]TIM2_CH3/PA3, 8 PF4, 9 PB7, 10 PB6, 11 I2C_SDA/PB5, 12 I2C_SCL/PB4, 13 TIM1_ETR/AN3/PB3, 14 TIM1_CH3/AN2/PB2, 15 TIM1_CH2/AN1/PB1, 16 TIM1_CH1/AN0/PB0, 17 PE5/SPI_NSS, 18 PC1/TIM1_CH1/UART1_CK, 19 PC2/TIM1_CH2, 20 PC3/TIM1_CH3, 21 PC4/TIM1_CH4/CLK_CCO, 22 PC5/SPI_SCK, 23 PC6/SPI_MOSI, 24 PC7/SPI_MISO, 25 PD0/TIM1_BKIN[CKL_CCO], 26 PD1/SWIM, 27 PD2/TIME2_CH3, 28 PD3/TIM2_CH2/ADC_ETR, 29 PD4/BEEP/TIM2_CH1, 30 PD5/UART1_TX, 31 PD6/UART1_RX, 32 PD7/TLI[TIM1_CH4]

## STM8S105C4T6
designator U?
footprint LQFP048_FPT-48P-M05

## STM8S105C6T6
designator U?
footprint LQFP048_FPT-48P-M05

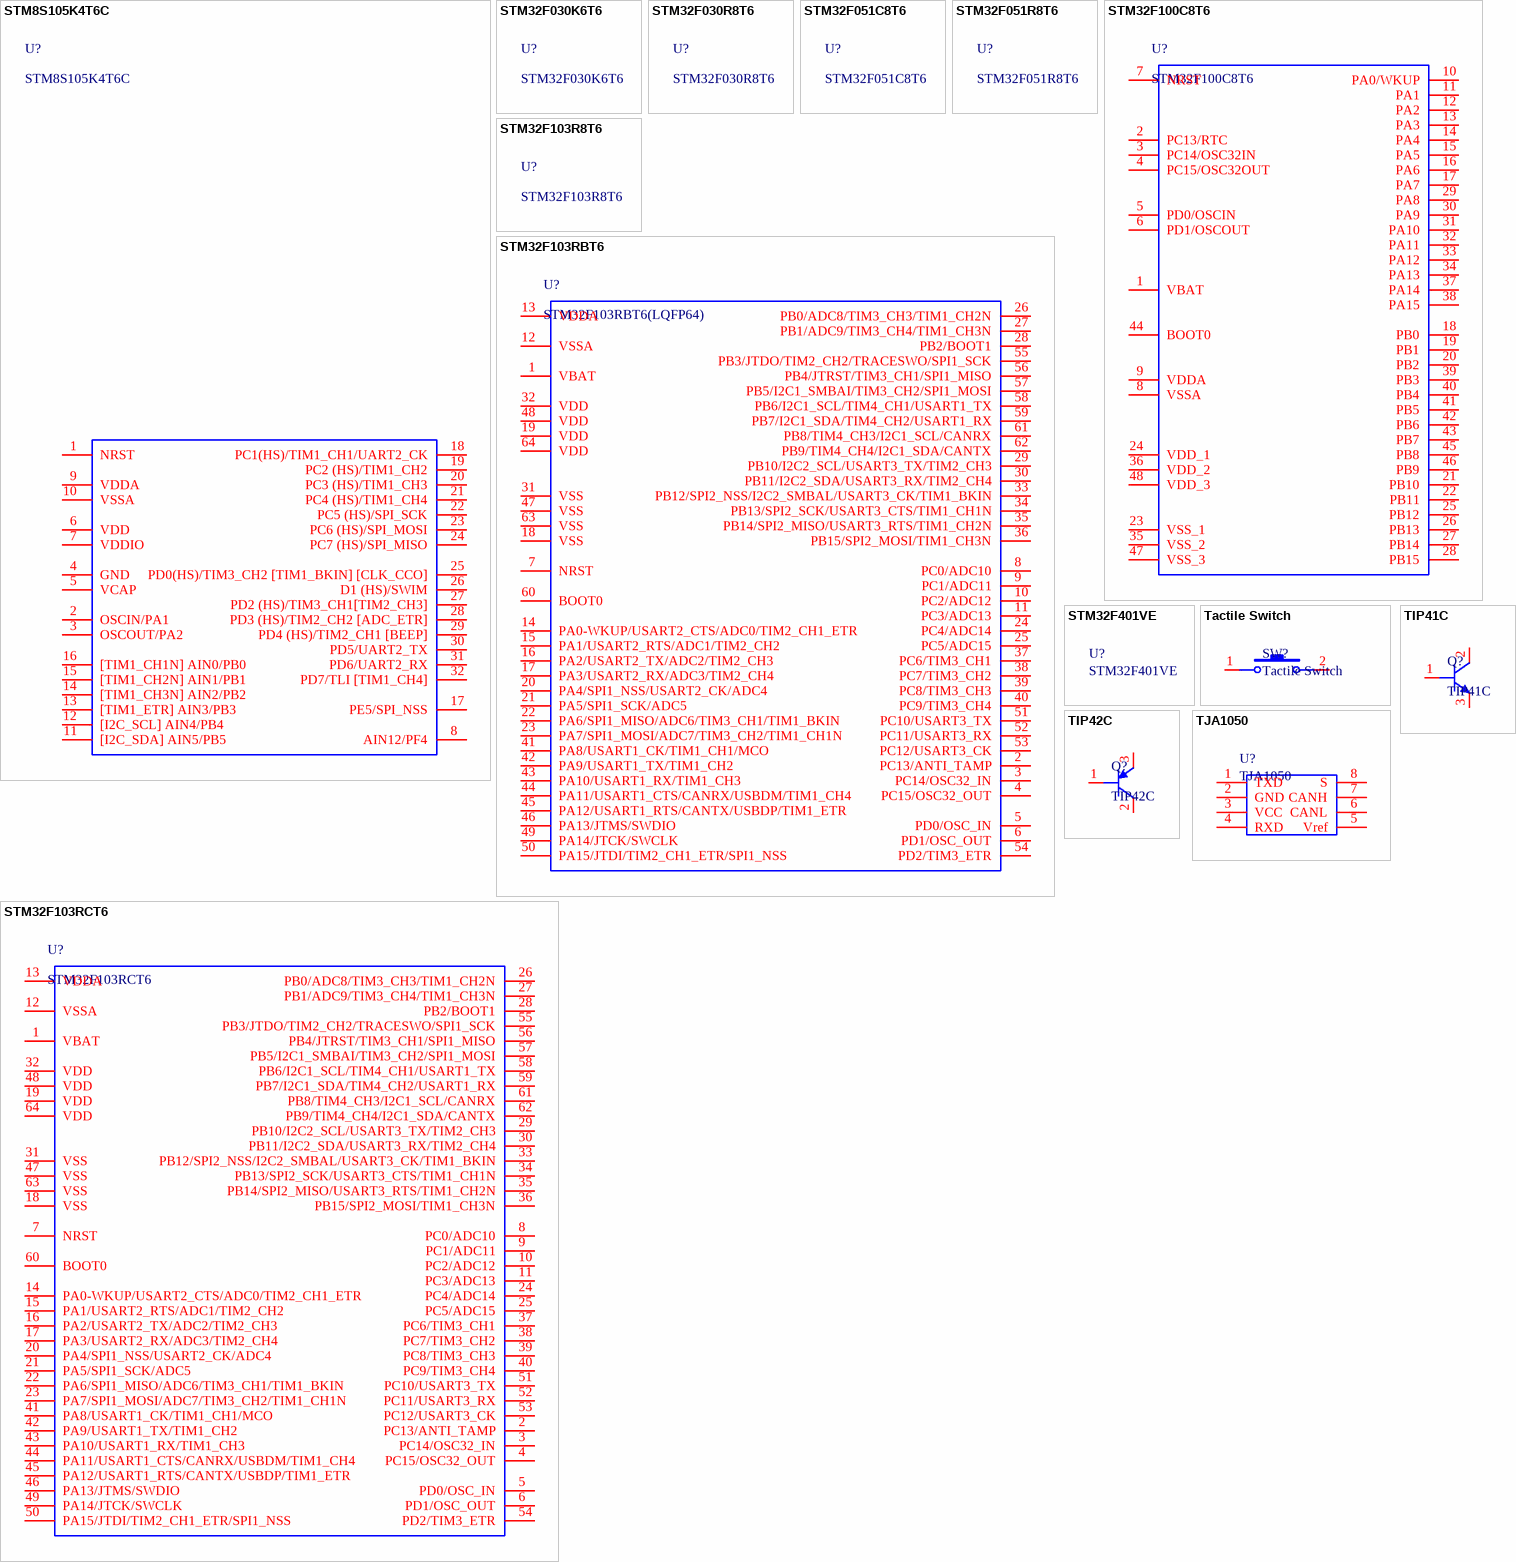
[diagram p5: symbols STM8S105K4T6C to TJA1050]

## STM8S105K4T6C
designator U?
footprint LQFP032_FPT-32P-M21
pins: 1 NRST, 2 OSCIN/PA1, 3 OSCOUT/PA2, 4 GND, 5 VCAP, 6 VDD, 7 VDDIO, 8 AIN12/PF4, 9 VDDA, 10 VSSA, 11 [I2C_SDA] AIN5/PB5, 12 [I2C_SCL] AIN4/PB4, 13 [TIM1_ETR] AIN3/PB3, 14 [TIM1_CH3N] AIN2/PB2, 15 [TIM1_CH2N] AIN1/PB1, 16 [TIM1_CH1N] AIN0/PB0, 17 PE5/SPI_NSS, 18 PC1(HS)/TIM1_CH1/UART2_CK, 19 PC2 (HS)/TIM1_CH2, 20 PC3 (HS)/TIM1_CH3, 21 PC4 (HS)/TIM1_CH4, 22 PC5 (HS)/SPI_SCK, 23 PC6 (HS)/SPI_MOSI, 24 PC7 (HS)/SPI_MISO, 25 PD0(HS)/TIM3_CH2 [TIM1_BKIN] [CLK_CCO], 26 D1 (HS)/SWIM, 27 PD2 (HS)/TIM3_CH1[TIM2_CH3], 28 PD3 (HS)/TIM2_CH2 [ADC_ETR], 29 PD4 (HS)/TIM2_CH1 [BEEP], 30 PD5/UART2_TX, 31 PD6/UART2_RX, 32 PD7/TLI [TIM1_CH4]

## STM32F030K6T6
designator U?
footprint LQFP032_FPT-32P-M21

## STM32F030R8T6
designator U?
footprint LQFP064_FPT-64P-M03

## STM32F051C8T6
designator U?
footprint LQFP064_FPT-64P-M03

## STM32F051R8T6
designator U?
footprint LQFP064_FPT-64P-M03

## STM32F100C8T6
designator U?
footprint LQFP048_FPT-48P-M05
pins: 1 VBAT, 2 PC13/RTC, 3 PC14/OSC32IN, 4 PC15/OSC32OUT, 5 PD0/OSCIN, 6 PD1/OSCOUT, 7 NRST, 8 VSSA, 9 VDDA, 10 PA0/WKUP, 11 PA1, 12 PA2, 13 PA3, 14 PA4, 15 PA5, 16 PA6, 17 PA7, 18 PB0, 19 PB1, 20 PB2, 21 PB10, 22 PB11, 23 VSS_1, 24 VDD_1, 25 PB12, 26 PB13, 27 PB14, 28 PB15, 29 PA8, 30 PA9, 31 PA10, 32 PA11, 33 PA12, 34 PA13, 35 VSS_2, 36 VDD_2, 37 PA14, 38 PA15, 39 PB3, 40 PB4, 41 PB5, 42 PB6, 43 PB7, 44 BOOT0, 45 PB8, 46 PB9, 47 VSS_3, 48 VDD_3

## STM32F103R8T6
designator U?
footprint LQFP064_FPT-64P-M03

## STM32F103RBT6
designator U?, comment STM32F103RBT6(LQFP64)
LQFP64
footprint LQFP064_FPT-64P-M03
pins: 1 VBAT, 2 PC13/ANTI_TAMP, 3 PC14/OSC32_IN, 4 PC15/OSC32_OUT, 5 PD0/OSC_IN, 6 PD1/OSC_OUT, 7 NRST, 8 PC0/ADC10, 9 PC1/ADC11, 10 PC2/ADC12, 11 PC3/ADC13, 12 VSSA, 13 VDDA, 14 PA0-WKUP/USART2_CTS/ADC0/TIM2_CH1_ETR, 15 PA1/USART2_RTS/ADC1/TIM2_CH2, 16 PA2/USART2_TX/ADC2/TIM2_CH3, 17 PA3/USART2_RX/ADC3/TIM2_CH4, 18 VSS, 19 VDD, 20 PA4/SPI1_NSS/USART2_CK/ADC4, 21 PA5/SPI1_SCK/ADC5, 22 PA6/SPI1_MISO/ADC6/TIM3_CH1/TIM1_BKIN, 23 PA7/SPI1_MOSI/ADC7/TIM3_CH2/TIM1_CH1N, 24 PC4/ADC14, 25 PC5/ADC15, 26 PB0/ADC8/TIM3_CH3/TIM1_CH2N, 27 PB1/ADC9/TIM3_CH4/TIM1_CH3N, 28 PB2/BOOT1, 29 PB10/I2C2_SCL/USART3_TX/TIM2_CH3, 30 PB11/I2C2_SDA/USART3_RX/TIM2_CH4, 31 VSS, 32 VDD, 33 PB12/SPI2_NSS/I2C2_SMBAL/USART3_CK/TIM1_BKIN, 34 PB13/SPI2_SCK/USART3_CTS/TIM1_CH1N, 35 PB14/SPI2_MISO/USART3_RTS/TIM1_CH2N, 36 PB15/SPI2_MOSI/TIM1_CH3N, 37 PC6/TIM3_CH1, 38 PC7/TIM3_CH2, 39 PC8/TIM3_CH3, 40 PC9/TIM3_CH4, 41 PA8/USART1_CK/TIM1_CH1/MCO, 42 PA9/USART1_TX/TIM1_CH2, 43 PA10/USART1_RX/TIM1_CH3, 44 PA11/USART1_CTS/CANRX/USBDM/TIM1_CH4, 45 PA12/USART1_RTS/CANTX/USBDP/TIM1_ETR, 46 PA13/JTMS/SWDIO, 47 VSS, 48 VDD, 49 PA14/JTCK/SWCLK, 50 PA15/JTDI/TIM2_CH1_ETR/SPI1_NSS, 51 PC10/USART3_TX, 52 PC11/USART3_RX, 53 PC12/USART3_CK, 54 PD2/TIM3_ETR, 55 PB3/JTDO/TIM2_CH2/TRACESWO/SPI1_SCK, 56 PB4/JTRST/TIM3_CH1/SPI1_MISO, 57 PB5/I2C1_SMBAI/TIM3_CH2/SPI1_MOSI, 58 PB6/I2C1_SCL/TIM4_CH1/USART1_TX, 59 PB7/I2C1_SDA/TIM4_CH2/USART1_RX, 60 BOOT0, 61 PB8/TIM4_CH3/I2C1_SCL/CANRX, 62 PB9/TIM4_CH4/I2C1_SDA/CANTX, 63 VSS, 64 VDD

## STM32F103RCT6
designator U?
LQFP64
footprint LQFP064_FPT-64P-M03
footprint SOCKET_QFP64
pins: 1 VBAT, 2 PC13/ANTI_TAMP, 3 PC14/OSC32_IN, 4 PC15/OSC32_OUT, 5 PD0/OSC_IN, 6 PD1/OSC_OUT, 7 NRST, 8 PC0/ADC10, 9 PC1/ADC11, 10 PC2/ADC12, 11 PC3/ADC13, 12 VSSA, 13 VDDA, 14 PA0-WKUP/USART2_CTS/ADC0/TIM2_CH1_ETR, 15 PA1/USART2_RTS/ADC1/TIM2_CH2, 16 PA2/USART2_TX/ADC2/TIM2_CH3, 17 PA3/USART2_RX/ADC3/TIM2_CH4, 18 VSS, 19 VDD, 20 PA4/SPI1_NSS/USART2_CK/ADC4, 21 PA5/SPI1_SCK/ADC5, 22 PA6/SPI1_MISO/ADC6/TIM3_CH1/TIM1_BKIN, 23 PA7/SPI1_MOSI/ADC7/TIM3_CH2/TIM1_CH1N, 24 PC4/ADC14, 25 PC5/ADC15, 26 PB0/ADC8/TIM3_CH3/TIM1_CH2N, 27 PB1/ADC9/TIM3_CH4/TIM1_CH3N, 28 PB2/BOOT1, 29 PB10/I2C2_SCL/USART3_TX/TIM2_CH3, 30 PB11/I2C2_SDA/USART3_RX/TIM2_CH4, 31 VSS, 32 VDD, 33 PB12/SPI2_NSS/I2C2_SMBAL/USART3_CK/TIM1_BKIN, 34 PB13/SPI2_SCK/USART3_CTS/TIM1_CH1N, 35 PB14/SPI2_MISO/USART3_RTS/TIM1_CH2N, 36 PB15/SPI2_MOSI/TIM1_CH3N, 37 PC6/TIM3_CH1, 38 PC7/TIM3_CH2, 39 PC8/TIM3_CH3, 40 PC9/TIM3_CH4, 41 PA8/USART1_CK/TIM1_CH1/MCO, 42 PA9/USART1_TX/TIM1_CH2, 43 PA10/USART1_RX/TIM1_CH3, 44 PA11/USART1_CTS/CANRX/USBDM/TIM1_CH4, 45 PA12/USART1_RTS/CANTX/USBDP/TIM1_ETR, 46 PA13/JTMS/SWDIO, 47 VSS, 48 VDD, 49 PA14/JTCK/SWCLK, 50 PA15/JTDI/TIM2_CH1_ETR/SPI1_NSS, 51 PC10/USART3_TX, 52 PC11/USART3_RX, 53 PC12/USART3_CK, 54 PD2/TIM3_ETR, 55 PB3/JTDO/TIM2_CH2/TRACESWO/SPI1_SCK, 56 PB4/JTRST/TIM3_CH1/SPI1_MISO, 57 PB5/I2C1_SMBAI/TIM3_CH2/SPI1_MOSI, 58 PB6/I2C1_SCL/TIM4_CH1/USART1_TX, 59 PB7/I2C1_SDA/TIM4_CH2/USART1_RX, 60 BOOT0, 61 PB8/TIM4_CH3/I2C1_SCL/CANRX, 62 PB9/TIM4_CH4/I2C1_SDA/CANTX, 63 VSS, 64 VDD

## STM32F401VE
designator U?

## Tactile Switch
designator SW?
footprint Tactile_3x6x2.5mm
pins: 1, 2

## TIP41C
designator Q?
footprint TO-220A
pins: 1 B, 2 C, 3 E

## TIP42C
designator Q?
footprint TO-220A
pins: 1 B, 2 C, 3 E

## TJA1050
designator U?
footprint SOIC08_1.27_6.0
pins: 1 TXD, 2 GND, 3 VCC, 4 RXD, 5 Vref, 6 CANL, 7 CANH, 8 S

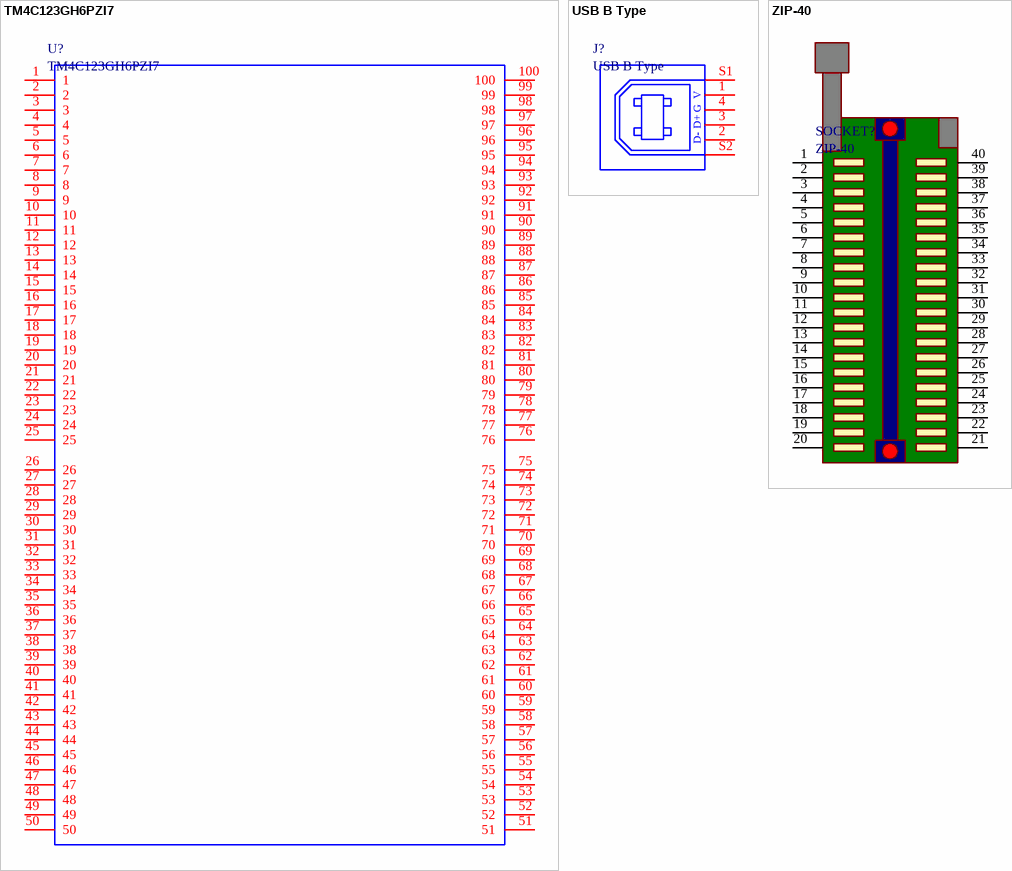
[diagram p6: symbols TM4C123GH6PZI7 to ZIP-40]

## TM4C123GH6PZI7
designator U?
footprint SOCKET_QFP100
pins: 1, 2, 3, 4, 5, 6, 7, 8, 9, 10, 11, 12, 13, 14, 15, 16, 17, 18, 19, 20, 21, 22, 23, 24, 25, 26, 27, 28, 29, 30, 31, 32, 33, 34, 35, 36, 37, 38, 39, 40, 41, 42, 43, 44, 45, 46, 47, 48, 49, 50, 51, 52, 53, 54, 55, 56, 57, 58, 59, 60, 61, 62, 63, 64, 65, 66, 67, 68, 69, 70, 71, 72, 73, 74, 75, 76, 77, 78, 79, 80, 81, 82, 83, 84, 85, 86, 87, 88, 89, 90, 91, 92, 93, 94, 95, 96, 97, 98, 99, 100

## USB B Type
designator J?
footprint USB-B-TYPE
pins: 1, 2, 3, 4, S1, S2
text: V; G; D+; D-

## ZIP-40
designator SOCKET?
footprint ZIP-40
pins: 1, 2, 3, 4, 5, 6, 7, 8, 9, 10, 11, 12, 13, 14, 15, 16, 17, 18, 19, 20, 21, 22, 23, 24, 25, 26, 27, 28, 29, 30, 31, 32, 33, 34, 35, 36, 37, 38, 39, 40